# Altium footprint library PcbLib1.PcbLib: 17 footprints (part 1 of 2)
Each footprint in its own frame and in the unit in brackets; x right, y up, seen from the top. Pads: shape width x height; smd on the part's side, far side on the other; paste and mask are expansions set on the pad; w line width, h text height; cw(c..) or ccw(c..) is an arc to the next point about the centre after c.
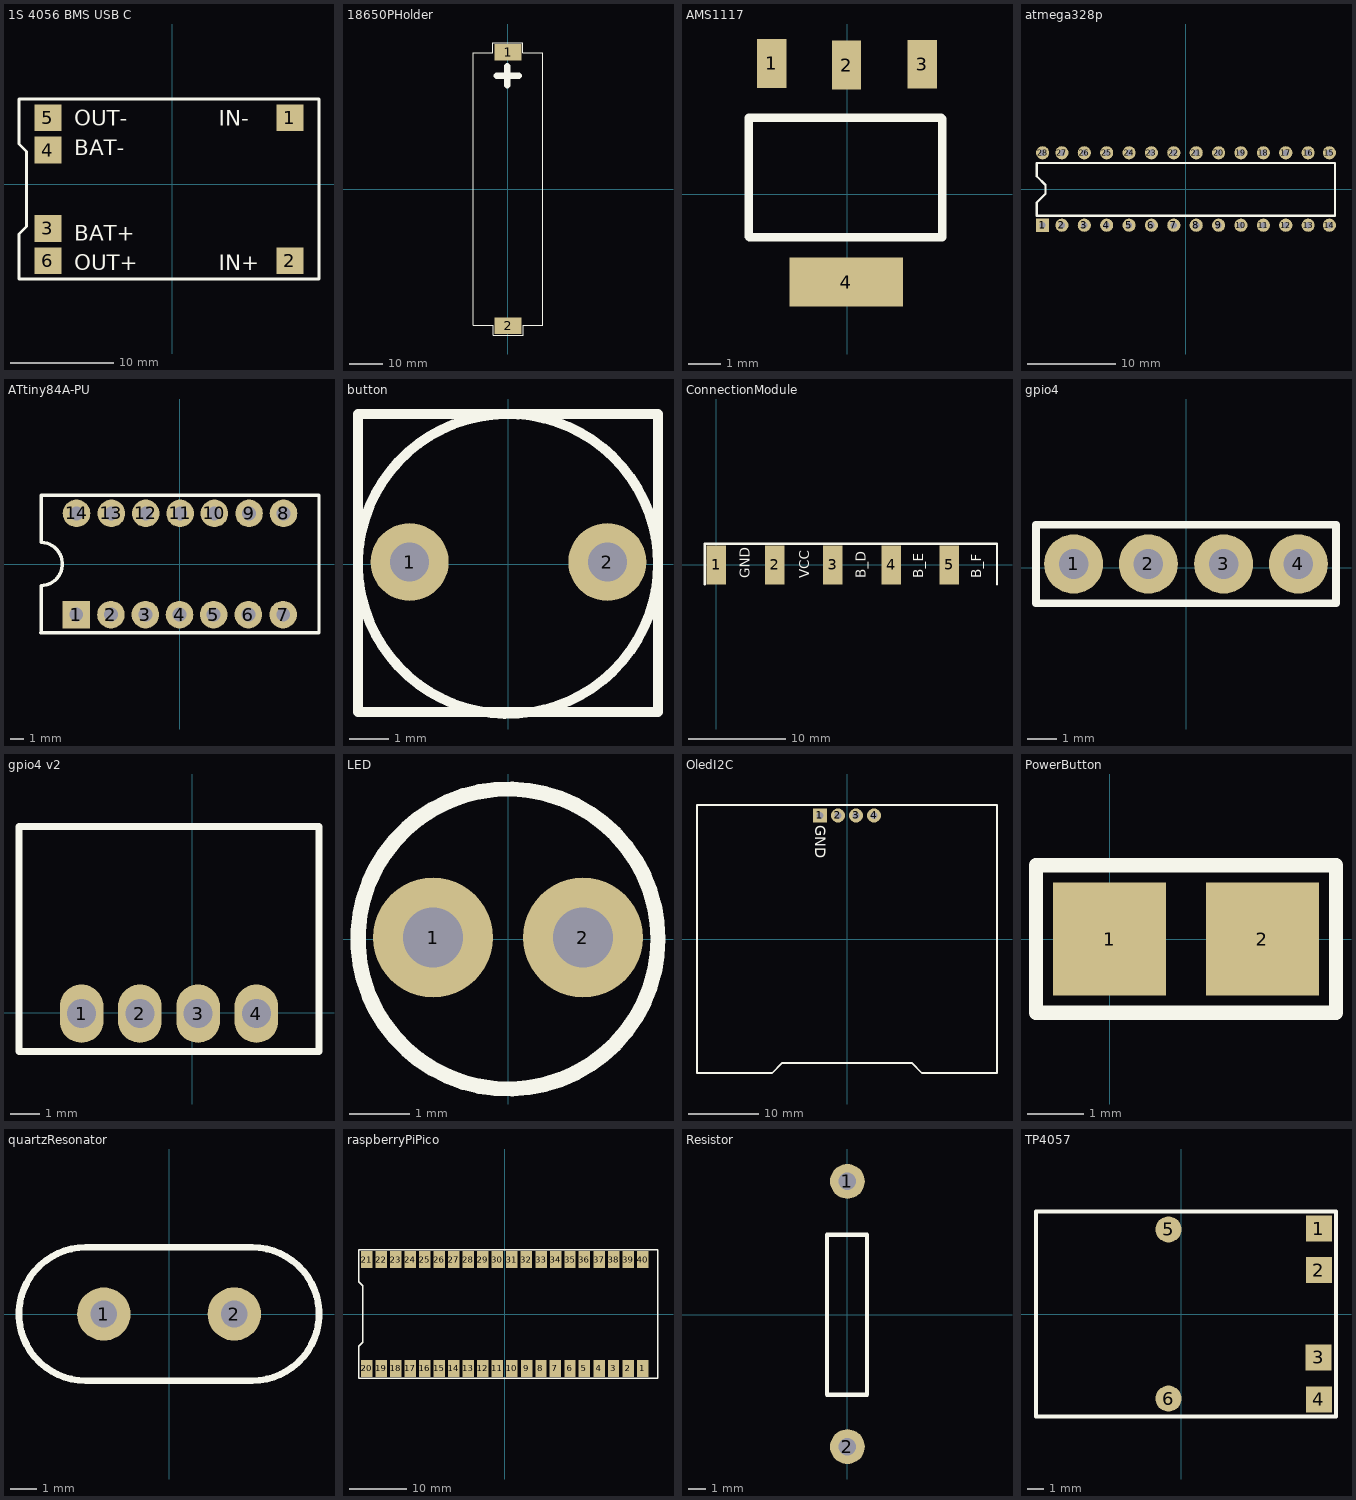
[diagram p0: the footprints below, top view; thin cyan lines are the x and y axes]

## 1S 4056 BMS USB C [mm]
pads (6):
  rect 2.6x2.6 smd: 1(11.375,6.425) 2(11.375,-7.425) 3(-12.075,-4.3) 4(-12.075,3.3) 5(-12.075,6.425) 6(-12.075,-7.425)
Top Overlay:
  lines w0.254: -14.875,-9.2 14.2,-9.2 14.2,8.25 -14.875,8.25 -14.875,3.887 -14.15,3.162 -14.15,-4.113 -14.875,-4.838 -14.875,-9.2
  text "IN-" at 4.479,5.654 h1.52
  text "IN+" at 4.479,-8.346 h1.52
  text "BAT+" at -9.521,-5.471 h1.52
  text "BAT-" at -9.521,2.779 h1.52
  text "OUT-" at -9.521,5.654 h1.52
  text "OUT+" at -9.521,-8.346 h1.52
3D body "1S 4056 BMS USB C Module 01b.step": height 5.26, standoff 0.4, extent -14.89,-9.15 14.19,8.15

## 18650РHolder [mm]
pads (2):
  rect 8x5 smd: 1(0.025,41.175) 2(0.025,-41.175)
Top Overlay:
  lines w0.254: 10.5,-40.996 10.5,41 4.5,41 4.5,44 -4.5,44 -4.5,41 -10.454,41 -10.454,-40.996 -4.454,-40.996 -4.454,-43.996 4.546,-43.996 4.546,-40.996 10.5,-40.996 ; 10.5,-40.996 10.5,-40.996
  lines w2: -3.35,34.1 3.175,34.1 ; -0.2,31.225 -0.2,36.925
3D body "KEYST_1042.stp": height 15.06, standoff -3.23, extent -10.3,-43.319 10.35,43.325

## AMS1117 [mm]
pads (4):
  rect 0.9x1.5 smd: 1(-2.312,4.025) 2(-0.012,3.975) 3(2.312,4)
  rect 3.5x1.5 smd: 4(-0.025,-2.7)
Top Overlay:
  lines w0.254: -3.025,-1.3 -3,-1.325 2.925,-1.325 2.925,2.325 2.9,2.35 -3.025,2.35 -3.025,-1.3
3D body "SOT223-3.step": height 1.6, standoff 0, extent -3.301,-2.925 3.199,4.149

## atmega328p [mm]
pads (28):
  rect 1.5x1.5 hole 0.7: 1(-16.325,-4.075)
  round 1.5 hole 0.7: 2(-14.125,-4.075) 3(-11.575,-4.075) 4(-9.025,-4.075) 5(-6.475,-4.075) 6(-3.925,-4.075) 7(-1.375,-4.075) 8(1.175,-4.075) 9(3.725,-4.075) 10(6.275,-4.075) 11(8.825,-4.075) 12(11.375,-4.075) 13(13.925,-4.075) 14(16.35,-4.075) 15(16.35,4.175) 16(13.925,4.175) 17(11.375,4.175) 18(8.825,4.175) 19(6.275,4.175) 20(3.725,4.175) 21(1.175,4.175) 22(-1.375,4.175) 23(-3.925,4.175) 24(-6.475,4.175) 25(-9.025,4.175) 26(-11.575,4.175) 27(-14.125,4.175) 28(-16.325,4.175)
Top Overlay:
  lines w0.254: -17,-3 17,-3 17,3 -17,3 -17,1.5 -16,0.5 -16,-0.5 -17,-1.5 -17,-3
3D body "ATMega328.SLDPRT": height 5.03, standoff -2.61, extent -17.27,-4.259 17.27,4.259

## ATtiny84A-PU [mm]
pads (14):
  rect 2x2 hole 1: 1(-7.525,-3.675)
  round 2 hole 1: 2(-5,-3.675) 3(-2.5,-3.675) 4(-0.025,-3.675) 5(2.45,-3.675) 6(4.975,-3.675) 7(7.5,-3.675) 8(7.525,3.675) 9(5.025,3.675) 10(2.5,3.675) 11(0.025,3.675) 12(-2.475,3.675) 13(-4.975,3.675) 14(-7.5,3.675)
Top Overlay:
  lines w0.254: -10.1,-4.975 -9.6,-4.975 9.6,-4.975 10.1,-4.975 10.1,-3.8 10.1,4.975 9.6,4.975 -9.6,4.975 -10.05,4.975 -10.05,1.574 cw(c-10.1,0) -10.075,-1.575 -10.075,-4.95 ; 10.1,0 10.1,0
3D body "ATtiny84.stp": height 4.2, standoff -2.8, extent -9.6,-3.8 9.6,3.8

## button [mm]
pads (2):
  round 2 hole 1: 1(-2.525,0.05) 2(2.55,0.05)
Top Overlay:
  circle w0.254: c0,0 r3.85
  lines w0.254: -3.85,-3.8 3.85,-3.8 3.85,3.85 -3.85,3.85 -3.85,-3.8

## ConnectionModule [mm]
pads (5):
  rect 2x4 smd: 1(0,0) 2(6,0) 3(12,0) 4(18,0) 5(24,0)
Top Overlay:
  lines w0.24: -1.2,-2 -1.2,2.2 28.9,2.2 28.9,-2
  text "GND" at 3.446,-1.346 h1
  text "VCC" at 9.546,-1.346 h1
  text "B_D" at 15.379,-1.346 h1
  text "B_E" at 21.279,-1.346 h1
  text "B_F" at 27.279,-1.346 h1

## gpio4 [mm]
pads (4):
  round 2 hole 1: 1(-3.8,0.125) 2(-1.275,0.125) 3(1.275,0.125) 4(3.8,0.125)
Top Overlay:
  lines w0.254: -5.075,-1.2 5.075,-1.2 5.075,1.45 -5.075,1.45 -5.075,-1.2
3D body "4x_Male_Pin_2.54_mm.STEP": height 8.56, standoff -2.54, extent -5.08,-1.075 5.08,1.325

## gpio4 v2 [mm]
pads (4):
  oval 1.5x2 hole 1: 1(-3.8,-0.025) 2(-1.8,-0.025) 3(0.2,-0.025) 4(2.2,-0.025)
Top Overlay:
  lines w0.254: -5.95,-1.325 -5.95,6.4 4.35,6.4 4.35,-1.325 -5.95,-1.325
3D body "JST 1.25 4P.STEP": height 4.65, standoff -3.25, extent -5.8,-0.275 4.2,6.225

## LED [mm]
pads (2):
  round 2 hole 1: 1(-1.25,0.025) 2(1.25,0.025)
Top Overlay:
  circle w0.254: c0,0 r2.5
3D body "LED GREEN.STEP": height 9.24, standoff -15.76, extent -2.5,-0.975 2.5,1.025

## OledI2C [mm]
pads (5):
  rect 2x2 hole 1: 1(-3.825,17.5)
  round 2 hole 1: 2(-1.275,17.5) 3(1.275,17.5) 4(3.825,17.5) ""(1.275,17.5)
Top Overlay:
  lines w0.254: -21.25,-19 -10.625,-19 -9.175,-17.55 9.175,-17.55 10.625,-19 21.25,-19 21.25,19 -21.25,19 -21.25,-19
  text "GND" at -4.496,16.146 h1.52
3D body "OLED Display 128x64.STEP": height 7.1, standoff -4, extent -21.25,-19 21.25,19

## PowerButton [mm]
pads (2):
  rect 2x2 smd: 1(0,0) 2(2.7,0)
Top Overlay:
  lines w0.254: -1.3,-1.3 4,-1.3 4,1.3 -1.3,1.3 -1.3,-1.3

## quartzResonator [mm]
pads (2):
  round 2 hole 1: 1(-2.445,-0.002) 2(2.45,0)
Top Overlay:
  lines w0.254: -3.125,-2.5 cw(c-3.125,0) -3.125,2.5 3.125,2.5 cw(c3.125,0) 3.125,-2.5 -3.125,-2.5
3D body "Crystal Resonator HC-49S.STEP": height 4.68, standoff -2.5, extent -5.75,-2.5 5.75,2.5

## raspberryPiPico [mm]
pads (40):
  rect 2x3 smd: 1(24.125,-9.5) 2(21.575,-9.5) 3(19.025,-9.5) 4(16.5,-9.5) 5(13.95,-9.5) 6(11.425,-9.5) 7(8.875,-9.5) 8(6.35,-9.5) 9(3.85,-9.5) 10(1.275,-9.5) 11(-1.275,-9.5) 12(-3.8,-9.5) 13(-6.375,-9.5) 14(-8.9,-9.5) 15(-11.425,-9.5) 16(-13.95,-9.5) 17(-16.5,-9.5) 18(-19.05,-9.5) 19(-21.6,-9.5) 20(-24.125,-9.5) 21(-24.125,9.5) 22(-21.575,9.5) 23(-19.025,9.5) 24(-16.5,9.5) 25(-13.95,9.5) 26(-11.425,9.5) 27(-8.875,9.5) 28(-6.35,9.5) 29(-3.85,9.5) 30(-1.275,9.5) 31(1.275,9.5) 32(3.8,9.5) 33(6.375,9.5) 34(8.9,9.5) 35(11.425,9.5) 36(13.95,9.5) 37(16.5,9.5) 38(19.05,9.5) 39(21.6,9.5) 40(24.125,9.5)
Top Overlay:
  lines w0.254: -25.5,-11.25 -25.5,-5.625 -24.8,-4.925 -24.8,4.925 -25.5,5.625 -25.5,11.25 26.8,11.25 26.8,-11.25 -25.5,-11.25
3D body "raspberry pi pico.step": height 4, standoff 0.5, extent -25.5,-10.5 26.8,10.5

## Resistor [mm]
pads (2):
  round 2 hole 1: 1(0.025,7.675) 2(0.025,-7.575)
Top Overlay:
  lines w0.254: -1.15,-4.6 -1.15,4.6 1.15,4.6 1.15,-4.6 -1.15,-4.6
3D body "R_D2.5_P15.24_0.25W_330_Ohm_MKV_Horizontal.step": height 2.3, standoff -3, extent -1.136,-7.92 1.15,7.92

## TP4057 [mm]
pads (6):
  rect 1.6x1.6 smd: 1(8.475,5.25) 2(8.475,2.7) 3(8.45,-2.675) 4(8.475,-5.25)
  round 1.6 smd: 5(-0.775,5.2) 6(-0.775,-5.2)
Top Overlay:
  lines w0.254: 9.525,6.1 9.525,6.275 9.525,6.3 -8.925,6.3 -8.925,-6.3 9.525,-6.3 9.525,6.288
3D body "Charging Module TP4057 Mini.step": height 5.21, standoff 0.95, extent -8.775,-6 9.225,6